# Altium footprint library wurth-term-block.PcbLib: 2 footprints
Each footprint in its own frame and in the unit in brackets; x right, y up, seen from the top. Pads: shape width x height; smd on the part's side, far side on the other; paste and mask are expansions set on the pad; w line width, h text height; cw(c..) or ccw(c..) is an arc to the next point about the centre after c.
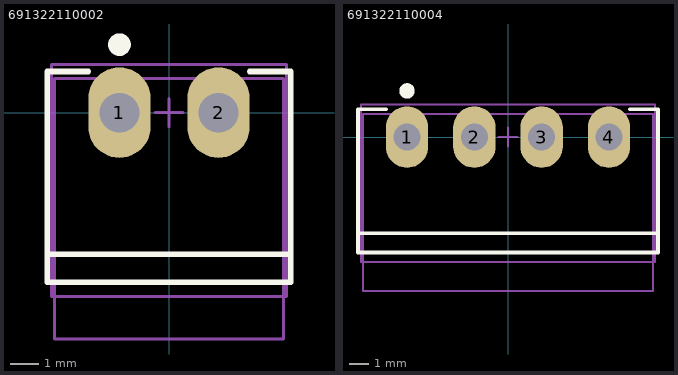
[diagram p0: the footprints below, top view; thin cyan lines are the x and y axes]

## 691322110002 [mm] "2 Pos, Terminal Block, Header Assembly, 90dg, 3.5mm Pitch"
height 7.2
pads (2):
  oval 2.2x3.2 hole 1.4: 1(-1.75,0) 2(1.75,0)
Top Overlay:
  circle w0.4: c-1.75,2.4 r0.2
  lines w0.2: -4.3,-5 4.3,-5 ; -2.85,1.45 -4.3,1.45 -4.3,-6 4.3,-6 4.3,1.45 2.85,1.45
Mechanical 13:
  lines w0.1: -0.5,0 0.5,0 ; 0,-0.5 0,0.5 ; -4.05,-8 -4.05,1.2 4.05,1.2 4.05,-8 -4.05,-8
Mechanical 15:
  lines w0.1: -4.15,-6.5 4.15,-6.5 4.15,1.7 -4.15,1.7 -4.15,-6.5
  text ".Designator" at -2.25,-3.45 h0.8
3D body: height 7.12, standoff -3.58, extent -4.05,-8 4.05,1.2

## 691322110004 [mm] "4 Pos, Terminal Block, Header Assembly, 90dg, 3.5mm Pitch"
height 7.2
pads (4):
  oval 2.2x3.2 hole 1.4: 1(-5.25,0) 2(-1.75,0) 3(1.75,0) 4(5.25,0)
Top Overlay:
  circle w0.4: c-5.25,2.4 r0.2
  lines w0.2: -7.8,-5 7.8,-5 ; -6.35,1.45 -7.8,1.45 -7.8,-6 7.8,-6 7.8,1.45 6.35,1.45
Mechanical 13:
  lines w0.1: -0.5,0 0.5,0 ; 0,-0.5 0,0.5 ; -7.55,-8 -7.55,1.2 7.55,1.2 7.55,-8 -7.55,-8
Mechanical 15:
  lines w0.1: -7.65,-6.5 -7.65,1.7 7.65,1.7 7.65,-6.5 -7.65,-6.5
  text ".Designator" at -2.375,-3.55 h0.8
3D body: height 7.22, standoff -3.48, extent -7.55,-8 7.55,1.2